# Altium footprint library Soldeerstation.PcbLib: 40 footprints (part 1 of 3)
Each footprint in its own frame and in the unit in brackets; x right, y up, seen from the top. Pads: shape width x height; smd on the part's side, far side on the other; paste and mask are expansions set on the pad; w line width, h text height; cw(c..) or ccw(c..) is an arc to the next point about the centre after c.
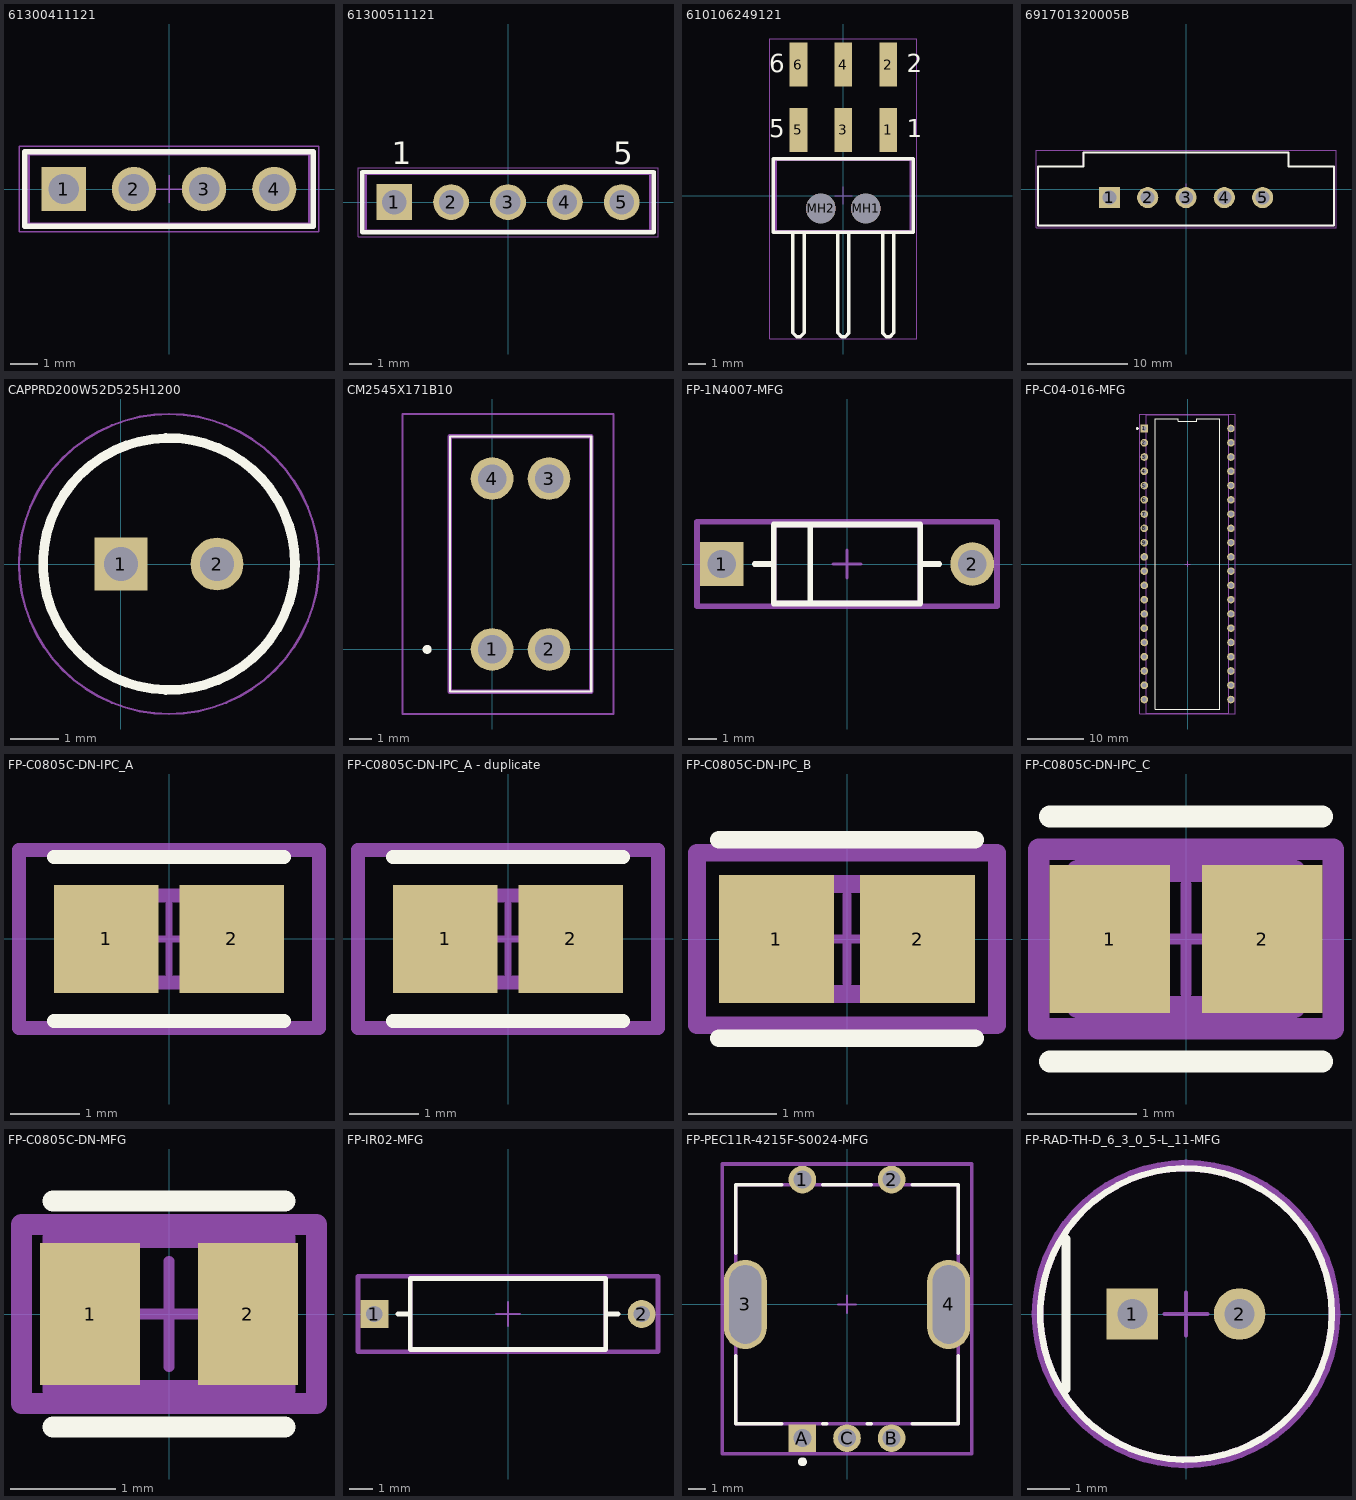
[diagram p0: the footprints below, top view; thin cyan lines are the x and y axes]

## 61300411121 [mm] "Pin Header, pitch 2.54 mm, THT, Vertical, single row, 4p"
height 8.54
pads (4):
  rect 1.6x1.6 hole 1.1: 1(-3.81,0)
  round 1.6 hole 1.1: 2(-1.27,0) 3(1.27,0) 4(3.81,0)
Top Overlay:
  lines w0.2: -5.23,-1.345 5.23,-1.345 5.23,1.345 -5.23,1.345 -5.23,-1.345
Top 3D Body:
  lines w0.1: -5.08,-1.27 -5.08,1.27 5.08,1.27 5.08,-1.27 -5.08,-1.27
Top Courtyard:
  lines w0.05: -0.5,0 0.5,0 ; 0,-0.5 0,0.5 ; -5.43,-1.545 -5.43,1.545 5.43,1.545 5.43,-1.545 -5.43,-1.545
3D body "61300411121.stp": height 8.57, standoff -2.97, extent -5.08,-1.27 5.08,1.27

## 61300511121 [mm] "Pin Header, pitch 2.54 mm, THT, Vertical, single row, 5p"
height 8.54
pads (5):
  rect 1.6x1.6 hole 1.1: 1(-5.08,0)
  round 1.6 hole 1.1: 2(-2.54,0) 3(0,0) 4(2.54,0) 5(5.08,0)
Top Overlay:
  lines w0.2: -6.5,-1.345 6.5,-1.345 6.5,1.345 -6.5,1.345 -6.5,-1.345
  text "1" at -5.2,1.7 h1.02
  text "5" at 4.7,1.7 h1.02
Top 3D Body:
  lines w0.1: -6.35,-1.27 -6.35,1.27 6.35,1.27 6.35,-1.27 -6.35,-1.27
Top Courtyard:
  lines w0.05: -0.5,0 0.5,0 ; 0,-0.5 0,0.5 ; -6.7,-1.545 -6.7,1.545 6.7,1.545 6.7,-1.545 -6.7,-1.545
3D body "61300511121.stp": height 8.57, standoff -2.97, extent -6.35,-1.27 6.35,1.27

## 610106249121 [mm] "Pin Header, pitch 2.54 mm, SMD, Angled, dual row, 6p"
height 5.08
pads (8):
  rect 1x2.5 smd: 1(2.54,3.72) 2(2.54,7.42) 3(0,3.72) 4(0,7.42) 5(-2.54,3.72) 6(-2.54,7.42)
  round 1.68 hole 1.68 unplated: MH1(1.27,-0.73) MH2(-1.27,-0.73)
Top Overlay:
  lines w0.2: -2.86,-2.075 -2.86,-7.375 -2.86,-7.655 -2.86,-7.78 -2.64,-8 -2.44,-8 -2.22,-7.78 -2.22,-7.655 -2.22,-7.375 -2.22,-2.075 ; -0.32,-2.075 -0.32,-7.375 -0.32,-7.655 -0.32,-7.78 -0.1,-8 0.1,-8 0.32,-7.78 0.32,-7.655 0.32,-7.375 0.32,-2.075 ; 2.22,-2.075 2.22,-7.375 2.22,-7.655 2.22,-7.78 2.44,-8 2.64,-8 2.86,-7.78 2.86,-7.655 2.86,-7.375 2.86,-2.075 ; -3.96,-2.075 3.96,-2.075 3.96,2.075 -3.96,2.075 -3.96,-2.075
  text "1" at 3.6,3.3 h1.02
  text "2" at 3.6,7 h1.02
  text "5" at -4.2,3.3 h1.02
  text "6" at -4.2,7 h1.02
Top 3D Body:
  lines w0.1: -2.86,-2 -2.86,-7.375 -2.86,-7.655 -2.86,-7.78 -2.64,-8 -2.44,-8 -2.22,-7.78 -2.22,-7.655 -2.22,-7.375 -2.22,-2 ; -0.32,-2 -0.32,-7.375 -0.32,-7.655 -0.32,-7.78 -0.1,-8 0.1,-8 0.32,-7.78 0.32,-7.655 0.32,-7.375 0.32,-2 ; 2.22,-2 2.22,-7.375 2.22,-7.655 2.22,-7.78 2.44,-8 2.64,-8 2.86,-7.78 2.86,-7.655 2.86,-7.375 2.86,-2 ; -3.81,-2 -3.81,2 3.81,2 3.81,-2 -3.81,-2
Top Courtyard:
  lines w0.05: -0.5,0 0.5,0 ; 0,-0.5 0,0.5 ; -4.16,-8.125 4.16,-8.125 4.16,8.87 -4.16,8.87 -4.16,-8.125
3D body "610106249121.stp": height 5.1, standoff -1.38, extent -3.81,-8 3.81,8.16

## 691701320005B [mm] "THR - 3,81mm - PCB Vertical Flange - 05p"
height 9.2
pads (5):
  rect 2.1x2.1 hole 1.4: 1(-7.62,-0.85)
  round 2.1 hole 1.4: 2(-3.81,-0.85) 3(0,-0.85) 4(3.81,-0.85) 5(7.62,-0.85)
Top Overlay:
  lines w0.2: -14.72,-3.65 14.72,-3.65 14.72,2.25 10.215,2.25 10.215,3.65 -10.215,3.65 -10.215,2.25 -14.72,2.25 -14.72,-3.65
Top 3D Body:
  lines w0.1: -14.72,-3.65 -14.72,2.25 -10.215,2.25 -10.215,3.65 10.215,3.65 10.215,2.25 14.72,2.25 14.72,-3.65 -14.72,-3.65
Top Courtyard:
  lines w0.05: -0.5,0 0.5,0 ; 0,-0.5 0,0.5 ; -14.92,-3.85 14.92,-3.85 14.92,3.85 -14.92,3.85 -14.92,-3.85
3D body "691701320005B.stp": height 9.25, standoff -2.55, extent -14.72,-3.65 14.72,3.65

## CAPPRD200W52D525H1200 [mm]
pads (2):
  rect 1.1x1.1 / inner round 1.1 / far side rect 1.1x1.1 hole 0.7: 1(0,0)
  round 1.1 hole 0.7: 2(2,0)
Top Overlay:
  circle w0.2: c1,0 r2.625
Top Courtyard:
  circle w0.1: c1,0 r2.625
Bottom Assembly:
  circle w0.05: c1,0 r3.125
3D body "MCRH63V105M_5X11.stp": height 5.8, standoff -4.65, extent -10,-3.376 10,3.376

## CM2545X171B10 [mm]
pads (4):
  round 1.905 hole 1.27: 1(0,0) 2(2.54,0) 3(2.54,7.62) 4(0,7.62)
Top Overlay:
  lines w0.1: -1.88,-1.88 -1.88,9.5 4.42,9.5 4.42,-1.88 -1.88,-1.88
  lines w0.2: -3,0 cw(c-2.9,0) -2.8,0 cw(c-2.9,0) -3,0
Top Courtyard:
  lines w0.2: -1.88,-1.88 -1.88,9.5 4.42,9.5 4.42,-1.88 -1.88,-1.88
Bottom Assembly:
  lines w0.1: -4,-2.88 -4,10.5 5.42,10.5 5.42,-2.88 -4,-2.88
3D body "CM2545X171B-10.stp": height 5.8, standoff -4.65, extent -10,-3.376 10,3.376

## FP-1N4007-MFG [mm]
pads (2):
  rect 1.55x1.55 hole 1 paste-1000 mask+0: 1(-4.44,0)
  round 1.55 hole 1 paste-1000 mask+0: 2(4.44,0)
Top Overlay:
  lines w0.2: -3.265,0 -2.6,0 ; -1.3,-1.33 -1.3,1.33 ; 2.6,0 3.265,0 ; -2.6,-1.4 -2.6,1.4 2.6,1.4 2.6,-1.4 -2.6,-1.4
Top Assembly:
  lines w0.2: -5.315,-1.5 -5.315,1.5 5.315,1.5 5.315,-1.5 -5.315,-1.5
  text ".Designator" at 0,0.188 h1
Top 3D Body:
  lines w0.2: -2.6,-1.4 -2.6,1.4 2.6,1.4 2.6,-1.4 -2.6,-1.4
Top Courtyard:
  lines w0.2: -5.315,-1.5 -5.315,1.5 5.315,1.5 5.315,-1.5 -5.315,-1.5
Top Component Center:
  lines w0.1: -0.5,0 0.5,0 ; 0,-0.5 0,0.5
3D body "Diode_Diotec_1N4007_eec.STEP": height 0.25, standoff 0, extent -5.315,-1.5 5.315,1.5

## FP-C04-016-MFG [mm]
pads (40):
  rect 1.35x1.35 hole 0.85 paste-1000 mask+0: 1(-7.715,24.13)
  round 1.35 hole 0.85 paste-1000 mask+0: 2(-7.715,21.59) 3(-7.715,19.05) 4(-7.715,16.51) 5(-7.715,13.97) 6(-7.715,11.43) 7(-7.715,8.89) 8(-7.715,6.35) 9(-7.715,3.81) 10(-7.715,1.27) 11(-7.715,-1.27) 12(-7.715,-3.81) 13(-7.715,-6.35) 14(-7.715,-8.89) 15(-7.715,-11.43) 16(-7.715,-13.97) 17(-7.715,-16.51) 18(-7.715,-19.05) 19(-7.715,-21.59) 20(-7.715,-24.13) 21(7.715,-24.13) 22(7.715,-21.59) 23(7.715,-19.05) 24(7.715,-16.51) 25(7.715,-13.97) 26(7.715,-11.43) 27(7.715,-8.89) 28(7.715,-6.35) 29(7.715,-3.81) 30(7.715,-1.27) 31(7.715,1.27) 32(7.715,3.81) 33(7.715,6.35) 34(7.715,8.89) 35(7.715,11.43) 36(7.715,13.97) 37(7.715,16.51) 38(7.715,19.05) 39(7.715,21.59) 40(7.715,24.13)
Top Overlay:
  circle w0.25: c-8.94,24.13 r0.125
  lines w0.2: -5.763,-25.876 5.763,-25.876 5.763,25.876 1.646,25.876 1.646,25.376 -1.646,25.376 -1.646,25.876 -5.763,25.876 -5.763,-25.876
Top Assembly:
  lines w0.2: -8.49,-26.706 -8.49,26.706 8.49,26.706 8.49,-26.706 -8.49,-26.706
  text ".Designator" at 0,0.188 h1
Top 3D Body:
  lines w0.2: -7.366,-26.607 -7.366,26.607 7.366,26.607 7.366,-26.607 -7.366,-26.607
Top Courtyard:
  lines w0.2: -8.49,-26.706 -8.49,26.706 8.49,26.706 8.49,-26.706 -8.49,-26.706
Top Component Center:
  lines w0.1: -0.5,0 0.5,0 ; 0,-0.5 0,0.5
3D body "IC_Microchip_Technology_PIC18LF47K40-I-P_eec.STEP": height 0.25, standoff 0, extent -8.49,-26.706 8.49,26.706

## FP-C0805C-DN-IPC_A [mm]
pads (2):
  rect 1.505x1.556 smd paste+0 mask+0: 1(-0.901,0) 2(0.901,0)
Top Overlay:
  lines w0.2: -1.653,-1.178 1.653,-1.178 ; -1.653,1.178 1.653,1.178
Top Assembly:
  lines w0.2: -2.153,-1.278 -2.153,1.278 2.153,1.278 2.153,-1.278 -2.153,-1.278
  text ".Designator" at 0,0.188 h1
Top 3D Body:
  lines w0.2: -1,-0.625 -1,0.625 1,0.625 1,-0.625 -1,-0.625
Top Courtyard:
  lines w0.2: -2.153,-1.278 -2.153,1.278 2.153,1.278 2.153,-1.278 -2.153,-1.278
Top Component Center:
  lines w0.1: -0.5,0 0.5,0 ; 0,-0.5 0,0.5
3D body "Cap_KEMET_C0805C472J3HAC_eec.STEP": height 0.25, standoff 0, extent -2.153,-1.278 2.153,1.278

## FP-C0805C-DN-IPC_A - duplicate [mm]
pads (2):
  rect 1.505x1.556 smd paste+0 mask+0: 1(-0.901,0) 2(0.901,0)
Top Overlay:
  lines w0.2: -1.653,-1.178 1.653,-1.178 ; -1.653,1.178 1.653,1.178
Top Assembly:
  lines w0.2: -2.153,-1.278 2.153,-1.278 2.153,1.278 -2.153,1.278 -2.153,-1.278
  text ".Designator" at 0,0.188 h1
Top 3D Body:
  lines w0.2: -1,-0.625 1,-0.625 1,0.625 -1,0.625 -1,-0.625
Top Courtyard:
  lines w0.2: -2.153,-1.278 2.153,-1.278 2.153,1.278 -2.153,1.278 -2.153,-1.278
Top Component Center:
  lines w0.1: -0.5,0 0.5,0 ; 0,-0.5 0,0.5
3D body "Cap_KEMET_C0805C472J3HAC_eec.STEP": height 0.25, standoff 0, extent -2.153,-1.278 2.153,1.278

## FP-C0805C-DN-IPC_B [mm]
pads (2):
  rect 1.305x1.456 smd paste+0 mask+0: 1(-0.801,0) 2(0.801,0)
Top Overlay:
  lines w0.2: -1.453,-1.128 1.453,-1.128 ; -1.453,1.128 1.453,1.128
Top Assembly:
  lines w0.2: -1.703,-0.978 -1.703,0.978 1.703,0.978 1.703,-0.978 -1.703,-0.978
  text ".Designator" at 0,0.188 h1
Top 3D Body:
  lines w0.2: -1,-0.625 -1,0.625 1,0.625 1,-0.625 -1,-0.625
Top Courtyard:
  lines w0.2: -1.703,-0.978 -1.703,0.978 1.703,0.978 1.703,-0.978 -1.703,-0.978
Top Component Center:
  lines w0.1: -0.5,0 0.5,0 ; 0,-0.5 0,0.5
3D body "Cap_KEMET_C0805C472J3HAC_eec.STEP": height 0.25, standoff 0, extent -1.703,-0.978 1.703,0.978

## FP-C0805C-DN-IPC_C [mm]
pads (2):
  rect 1.105x1.356 smd paste+0 mask+0: 1(-0.701,0) 2(0.701,0)
Top Overlay:
  lines w0.2: -1.253,-1.125 1.253,-1.125 ; -1.253,1.125 1.253,1.125
Top Assembly:
  lines w0.2: -1.353,-0.825 -1.353,0.825 1.353,0.825 1.353,-0.825 -1.353,-0.825
  text ".Designator" at 0,0.188 h1
Top 3D Body:
  lines w0.2: -1,-0.625 -1,0.625 1,0.625 1,-0.625 -1,-0.625
Top Courtyard:
  lines w0.2: -1.353,-0.825 -1.353,0.825 1.353,0.825 1.353,-0.825 -1.353,-0.825
Top Component Center:
  lines w0.1: -0.5,0 0.5,0 ; 0,-0.5 0,0.5
3D body "Cap_KEMET_C0805C472J3HAC_eec.STEP": height 0.25, standoff 0, extent -1.353,-0.825 1.353,0.825

## FP-C0805C-DN-MFG [mm]
pads (2):
  rect 0.95x1.35 smd paste+0 mask+0: 1(-0.75,0) 2(0.75,0)
Top Overlay:
  lines w0.2: -1.1,-1.075 1.1,-1.075 ; -1.1,1.075 1.1,1.075
Top Assembly:
  lines w0.2: -1.4,-0.85 1.4,-0.85 1.4,0.85 -1.4,0.85 -1.4,-0.85
  text ".Designator" at 0,0.188 h1
Top 3D Body:
  lines w0.2: -1.1,-0.725 1.1,-0.725 1.1,0.725 -1.1,0.725 -1.1,-0.725
Top Courtyard:
  lines w0.2: -1.4,-0.85 1.4,-0.85 1.4,0.85 -1.4,0.85 -1.4,-0.85
Top Component Center:
  lines w0.1: -0.5,0 0.5,0 ; 0,-0.5 0,0.5
3D body "Cap_KEMET_C0805C472J3HAC_eec.STEP": height 0.25, standoff 0, extent -1.4,-0.85 1.4,0.85

## FP-IR02-MFG [mm]
pads (2):
  rect 1.2x1.2 hole 0.7 paste-1000 mask+0: 1(-5.736,0)
  round 1.2 hole 0.7 paste-1000 mask+0: 2(5.736,0)
Top Overlay:
  lines w0.2: -4.736,0 -4.19,0 ; 4.19,0 4.736,0 ; -4.19,-1.525 -4.19,1.525 4.19,1.525 4.19,-1.525 -4.19,-1.525
Top Assembly:
  lines w0.2: -6.436,-1.625 -6.436,1.625 6.436,1.625 6.436,-1.625 -6.436,-1.625
  text ".Designator" at 0,0.188 h1
Top 3D Body:
  lines w0.2: -4.19,-1.525 -4.19,1.525 4.19,1.525 4.19,-1.525 -4.19,-1.525
Top Courtyard:
  lines w0.2: -6.436,-1.625 -6.436,1.625 6.436,1.625 6.436,-1.625 -6.436,-1.625
Top Component Center:
  lines w0.1: -0.5,0 0.5,0 ; 0,-0.5 0,0.5
3D body "Ind_Vishay_Dale_IR02BH100K_eec.STEP": height 0.25, standoff 0, extent -6.436,-1.625 6.436,1.625

## FP-PEC11R-4215F-S0024-MFG [mm]
pads (7):
  round 1.55 hole 1 paste-1000 mask+0: 1(-2.5,7) 2(2.5,7) B(2.5,-7.5) C(0,-7.5)
  rrect100% 2.4x5 hole 4.4 slot 1.8 at 0 deg paste-1000 mask+0: 3(-5.7,0) 4(5.7,0)
  rect 1.55x1.55 hole 1 paste-1000 mask+0: A(-2.5,-7.5)
Top Overlay:
  circle w0.25: c-2.5,-8.825 r0.125
  lines w0.2: -6.25,-2.875 -6.25,-6.7 -3.65,-6.7 ; -6.25,2.875 -6.25,6.7 -3.65,6.7 ; -1.35,-6.7 -1.15,-6.7 ; -1.35,6.7 1.35,6.7 ; 1.15,-6.7 1.35,-6.7 ; 3.65,-6.7 6.25,-6.7 6.25,-2.875 ; 3.65,6.7 6.25,6.7 6.25,2.875
Top Assembly:
  lines w0.2: -7,-8.375 7,-8.375 7,7.875 -7,7.875 -7,-8.375
  text ".Designator" at 0,-0.062 h1
Top 3D Body:
  lines w0.2: -6.25,-6.7 6.25,-6.7 6.25,6.7 -6.25,6.7 -6.25,-6.7
Top Courtyard:
  lines w0.2: -7,-8.375 7,-8.375 7,7.875 -7,7.875 -7,-8.375
Top Component Center:
  lines w0.1: -0.5,0 0.5,0 ; 0,-0.5 0,0.5
3D body "Enc_Bourns_PEC11R-4215F-S0024_eec.STEP": height 0.25, standoff 0, extent -7,-8.375 7,7.875

## FP-RAD-TH-D_6_3_0_5-L_11-MFG [mm]
pads (2):
  rect 1.2x1.2 hole 0.7 paste-1000 mask+0: 1(-1.25,0)
  round 1.2 hole 0.7 paste-1000 mask+0: 2(1.25,0)
Top Overlay:
  circle w0.15: c0,0 r3.4
  lines w0.2: -2.8,-1.75 -2.8,1.75
Top Assembly:
  text ".Designator" at 0,0.188 h1
Top 3D Body:
  circle w0.15: c0,0 r3.4
Top Courtyard:
  lines w0.2: -3.5,0 cw(c0,0) 3.5,0 cw(c0,0) -3.5,0
Top Component Center:
  lines w0.1: -0.5,0 0.5,0 ; 0,-0.5 0,0.5
3D body "Cap_Panasonic_EEUFM1E101E_eec.STEP": height 0.25, standoff 0, extent -3.5,-3.5 3.5,3.5